# EAGLE library part 5501 (library PP_Electromechanical)
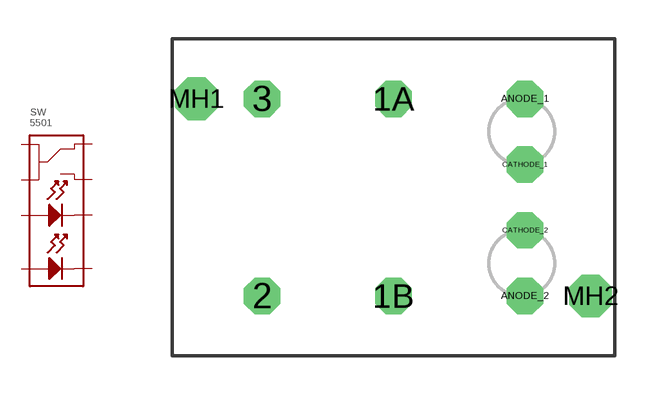
[diagram p5: symbol with the pads of 5501; footprint 5501]

Designator prefix SW

## 5501  [5501]
1A  1A
1B  1B
2  2
3  3
ANODE_1  ANODE_1
ANODE_2  ANODE_2
CATHODE_1  CATHODE_1
CATHODE_2  CATHODE_2

## Footprint 5501 (pad centres in mm)
drill 0.9 octagon: 1A 0,3.81; 1B 0,-3.81; 2 -5.08,-3.81; 3 -5.08,3.81; ANODE_1 5.08,3.81; ANODE_2 5.08,-3.81; CATHODE_1 5.08,1.27; CATHODE_2 5.08,-1.27
drill 1.1 octagon: MH1 -7.62,3.81; MH2 7.62,-3.81